# Altium footprint library ESP32-38PIN.PcbLib: 1 footprints
Each footprint in its own frame and in the unit in brackets; x right, y up, seen from the top. Pads: shape width x height; smd on the part's side, far side on the other; paste and mask are expansions set on the pad; w line width, h text height; cw(c..) or ccw(c..) is an arc to the next point about the centre after c.
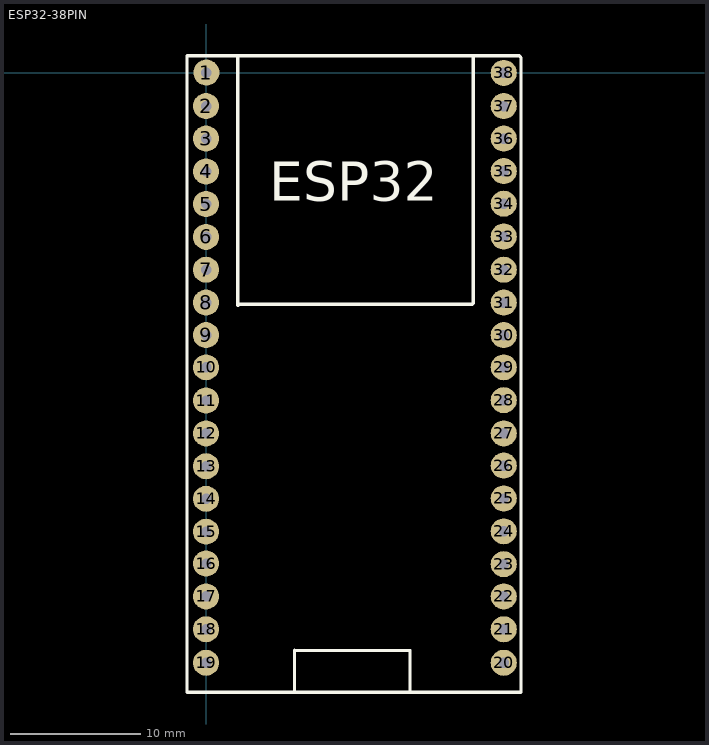
[diagram p0: the footprint, top view; thin cyan lines are the x and y axes]

## ESP32-38PIN [mm] "ESP32-38PIN"
height 10
pads (38):
  round 2 hole 0.8: 1(0,0) 2(-0.025,-2.575) 3(-0.025,-5.075) 4(-0.025,-7.6) 5(-0.025,-10.1) 6(-0.025,-12.625) 7(-0.025,-15.15) 8(-0.025,-17.675) 9(-0.025,-20.175) 10(-0.025,-22.65) 11(-0.025,-25.2) 12(-0.025,-27.725) 13(-0.025,-30.25) 14(-0.025,-32.75) 15(-0.025,-35.275) 16(-0.025,-37.725) 17(-0.025,-40.25) 18(-0.025,-42.775) 19(-0.025,-45.35) 20(22.85,-45.35) 21(22.85,-42.775) 22(22.85,-40.25) 23(22.85,-37.775) 24(22.85,-35.25) 25(22.85,-32.725) 26(22.85,-30.2) 27(22.85,-27.725) 28(22.85,-25.175) 29(22.85,-22.65) 30(22.85,-20.175) 31(22.85,-17.675) 32(22.85,-15.15) 33(22.85,-12.6) 34(22.85,-10.075) 35(22.85,-7.575) 36(22.85,-5.075) 37(22.85,-2.575) 38(22.85,-0.025)
Top Overlay:
  lines w0.254: 2.4,1.25 2.4,-17.9 2.5,-17.8 20.425,-17.8 20.5,-17.725 20.5,1.125 ; 6.771,-47.506 6.771,-44.396 6.775,-44.4 15.625,-44.4 15.65,-44.425 15.65,-47.55 ; -1.484,-47.609 24.17,-47.609 24.17,1.159 24.043,1.286 -1.484,1.286 -1.484,-47.609
  text "ESP32" at 4.825,-9.85 h3
3D body "NodeMCU-32S.step": height 4.63, standoff -8.63, extent -1.441,-47.611 24.108,1.292